# Altium footprint library CX3_Camera.PcbLib: 27 footprints (part 2 of 2)
Each footprint in its own frame and in the unit in brackets; x right, y up, seen from the top. Pads: shape width x height; smd on the part's side, far side on the other; paste and mask are expansions set on the pad; w line width, h text height; cw(c..) or ccw(c..) is an arc to the next point about the centre after c.
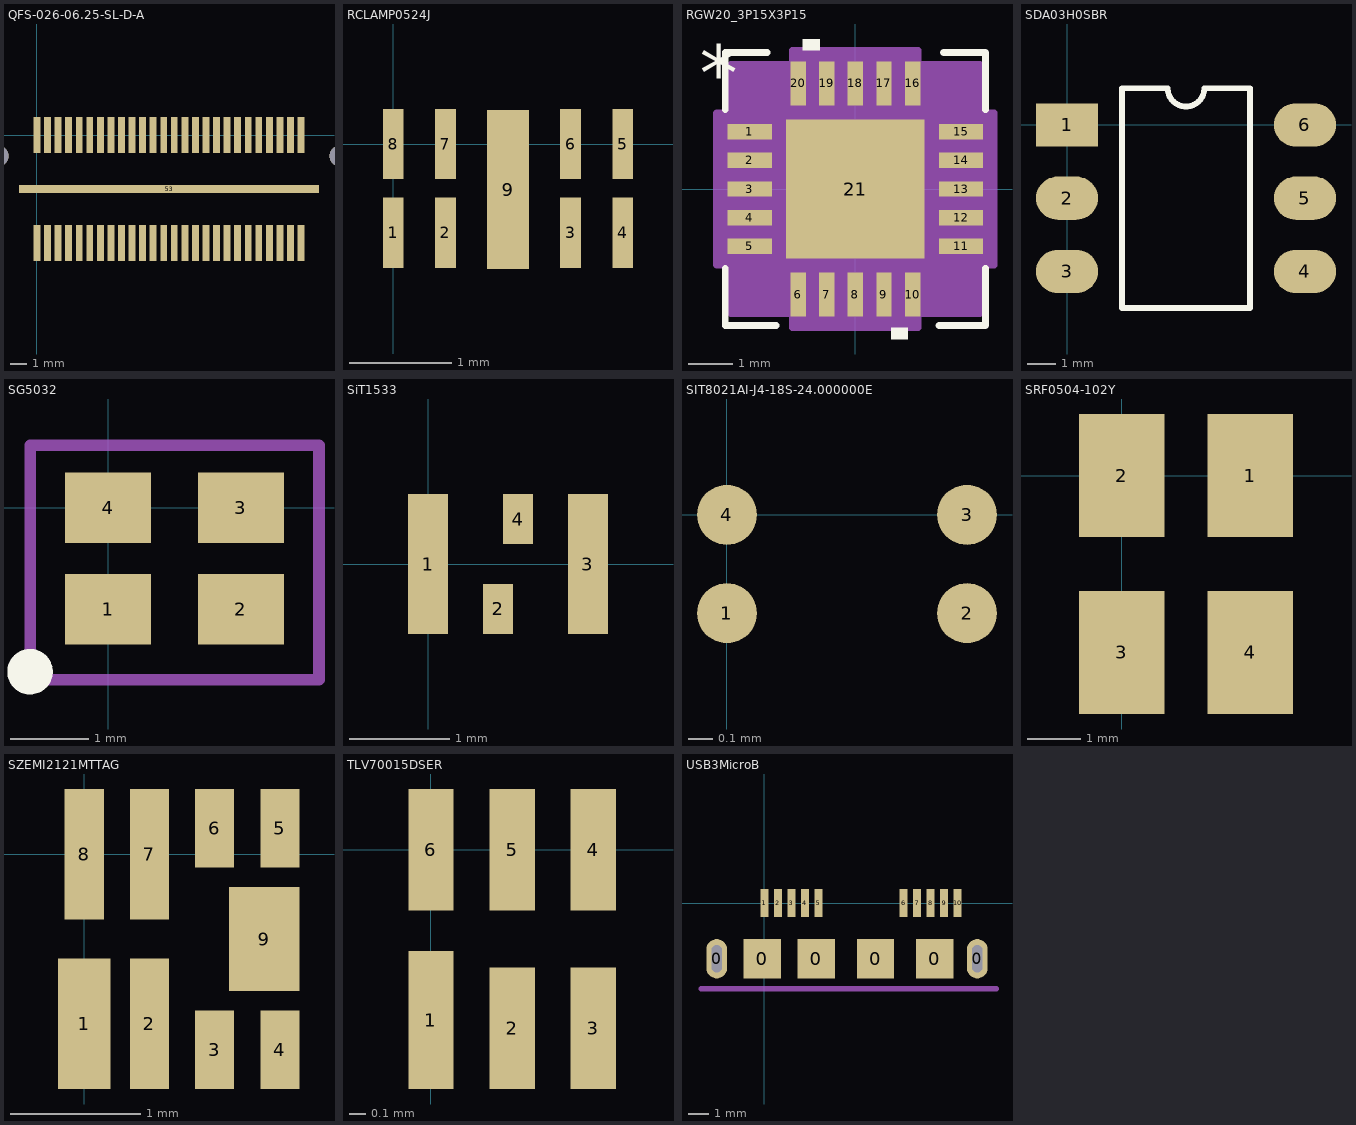
[diagram p1: the footprints below, top view; thin cyan lines are the x and y axes]

## QFS-026-06.25-SL-D-A [mm]
pads (53):
  rect 0.41x2.16 smd: 1(0,0) 2(0,-6.48) 3(0.635,0) 4(0.635,-6.48) 5(1.27,0) 6(1.27,-6.48) 7(1.905,0) 8(1.905,-6.48) 9(2.54,0) 10(2.54,-6.48) 11(3.175,0) 12(3.175,-6.48) 13(3.81,0) 14(3.81,-6.48) 15(4.445,0) 16(4.445,-6.48) 17(5.08,0) 18(5.08,-6.48) 19(5.715,0) 20(5.715,-6.48) 21(6.35,0) 22(6.35,-6.48) 23(6.985,0) 24(6.985,-6.48) 25(7.62,0) 26(7.62,-6.48) 27(8.255,0) 28(8.255,-6.48) 29(8.89,0) 30(8.89,-6.48) 31(9.525,0) 32(9.525,-6.48) 33(10.16,0) 34(10.16,-6.48) 35(10.795,0) 36(10.795,-6.48) 37(11.43,0) 38(11.43,-6.48) 39(12.065,0) 40(12.065,-6.48) 41(12.7,0) 42(12.7,-6.48) 43(13.335,0) 44(13.335,-6.48) 45(13.97,0) 46(13.97,-6.48) 47(14.605,0) 48(14.605,-6.48) 49(15.24,0) 50(15.24,-6.48) 51(15.875,0) 52(15.875,-6.48)
  rect 18.03x0.51 smd: 53(7.938,-3.24)
via -2.349,-1.257 diameter 1.25 hole 1.25
via 18.224,-1.257 diameter 1.25 hole 1.25
3D body "QFS-026-06.25-SL-D-A.STEP": height 9.04, standoff -1.27, extent -3.238,-7.304 19.114,0.824

## RCLAMP0524J [mil] "TVS DIODE 5VWM 15VC 8SLP"
pads (9):
  rect 8x27 smd: 1(0,-34) 2(20,-34) 3(68,-34) 4(88,-34) 5(88,0) 6(68,0) 7(20,0) 8(0,0)
  rect 16x61 smd: 9(44,-17.5)

## RGW20_3P15X3P15 [mm]
pads (21):
  rect 1x0.35 smd paste-0.175: 1(-2.4,1.3) 2(-2.4,0.65) 3(-2.4,0) 4(-2.4,-0.65) 5(-2.4,-1.3) 11(2.4,-1.3) 12(2.4,-0.65) 13(2.4,0) 14(2.4,0.65) 15(2.4,1.3)
  rect 0.35x1 smd paste-0.175: 6(-1.3,-2.4) 7(-0.65,-2.4) 8(0,-2.4) 9(0.65,-2.4) 10(1.3,-2.4) 16(1.3,2.4) 17(0.65,2.4) 18(0,2.4) 19(-0.65,2.4) 20(-1.3,2.4)
  rect 3.15x3.15 smd paste-1.562 mask-1.562: 21(0,0)
Top Overlay:
  region: 1.191,-3.154 0.81,-3.154 0.81,-3.408 1.191,-3.408
  region: -0.81,3.154 -1.191,3.154 -1.191,3.408 -0.81,3.408
  lines w0.152: -2.956,-1.803 -2.956,-3.1 -1.8,-3.1 ; -2.956,1.803 -2.956,3.1 -2,3.1 ; 1.9,-3.1 2.956,-3.1 2.956,-1.803 ; 2,3.1 2.956,3.1 2.956,1.803
  text "*" at -3.535,2.006 h1.27
Top Paste:
  drawing of 37 lines, arcs and shapes, not listed
Top Solder:
  region: -1.83,1.545 -2.97,1.545 -2.97,1.055 -1.83,1.055
  region: -1.83,0.895 -2.97,0.895 -2.97,0.405 -1.83,0.405
  region: -1.83,0.245 -2.97,0.245 -2.97,-0.245 -1.83,-0.245
  region: -1.83,-0.405 -2.97,-0.405 -2.97,-0.895 -1.83,-0.895
  region: -1.83,-1.055 -2.97,-1.055 -2.97,-1.545 -1.83,-1.545
  region: 0.245,-1.83 -0.245,-1.83 -0.245,-2.97 0.245,-2.97
  region: 2.97,-1.055 1.83,-1.055 1.83,-1.545 2.97,-1.545
  region: 2.97,-0.405 1.83,-0.405 1.83,-0.895 2.97,-0.895
  region: 2.97,0.245 1.83,0.245 1.83,-0.245 2.97,-0.245
  region: 2.97,0.895 1.83,0.895 1.83,0.405 2.97,0.405
  region: 2.97,1.545 1.83,1.545 1.83,1.055 2.97,1.055
  region: 0.245,2.97 -0.245,2.97 -0.245,1.83 0.245,1.83
  region: -1.639,1.381 -1.639,1.639 1.639,1.639 1.639,1.381
  region: -1.639,0.594 -1.639,0.981 1.639,0.981 1.639,0.594
  region: -1.639,-0.194 -1.639,0.194 1.639,0.194 1.639,-0.194
  region: -1.639,-0.981 -1.639,-0.594 1.639,-0.594 1.639,-0.981
  region: -1.639,-1.639 -1.639,-1.381 1.639,-1.381 1.639,-1.639
  region: -1.639,-1.639 -1.639,1.639 -1.381,1.639 -1.381,-1.639
  region: -0.594,-1.639 -0.594,1.639 -0.981,1.639 -0.981,-1.639
  region: 0.194,-1.639 0.194,1.639 -0.194,1.639 -0.194,-1.639
  region: 0.981,-1.639 0.981,1.639 0.594,1.639 0.594,-1.639
  region: 1.381,-1.639 1.381,1.639 1.639,1.639 1.639,-1.639
Mechanical 15:
  region: -1.429,-2.829 -2.829,-2.829 -2.829,-1.729 -3.154,-1.729 -3.154,1.729 -2.829,1.729 -2.829,2.829 -1.429,2.829 -1.429,3.154 1.429,3.154 1.429,2.829 2.829,2.829 2.829,1.729 3.154,1.729 3.154,-1.729 2.829,-1.729 2.829,-2.829 1.429,-2.829 1.429,-3.154 -1.429,-3.154
  lines w0.152: -3.154,-1.729 -2.829,-1.729 -2.829,-2.829 -1.429,-2.829 -1.429,-3.154 1.429,-3.154 1.429,-2.829 2.829,-2.829 2.829,-1.729 3.154,-1.729 3.154,1.729 2.829,1.729 2.829,2.829 1.429,2.829 1.429,3.154 -1.429,3.154 -1.429,2.829 -2.829,2.829 -2.829,1.729 -3.154,1.729 -3.154,-1.729
Mechanical 16:
  circle w0.127: c-1.181,-1.181 r0.191
  circle w0.127: c-1.181,-0.394 r0.191
  circle w0.127: c-1.181,0.394 r0.191
  circle w0.127: c-1.181,1.181 r0.191
  circle w0.127: c-0.394,-1.181 r0.191
  circle w0.127: c-0.394,-0.394 r0.191
  circle w0.127: c-0.394,0.394 r0.191
  circle w0.127: c-0.394,1.181 r0.191
  circle w0.127: c0.394,-1.181 r0.191
  circle w0.127: c0.394,-0.394 r0.191
  circle w0.127: c0.394,0.394 r0.191
  circle w0.127: c0.394,1.181 r0.191
  circle w0.127: c1.181,-1.181 r0.191
  circle w0.127: c1.181,-0.394 r0.191
  circle w0.127: c1.181,0.394 r0.191
  circle w0.127: c1.181,1.181 r0.191
3D body "RGW20_3P15X3P15.stp": height 1, standoff 0, extent -2.626,-2.626 2.626,2.626

## SDA03H0SBR [mm]
pads (6):
  rect 2.15x1.5 smd: 1(0,0)
  oval 2.15x1.5 smd: 2(0,-2.54) 3(0,-5.08) 4(8.25,-5.08) 5(8.25,-2.54) 6(8.25,0)
Top Overlay:
  lines w0.2: 1.91,-6.35 6.34,-6.35 6.34,1.27 4.76,1.27 cw(c4.125,1.27) 3.49,1.27 1.91,1.27 1.91,-6.35
3D body "sda03h0s.stp": height 4.5, standoff 0, extent -0.5,-7.301 8.8,2.301

## SG5032 [mm]
pads (4):
  rect 1.1x0.9 smd: 1(0,-1.3) 2(1.7,-1.3) 3(1.7,0) 4(0,0)
Top Overlay:
  circle w0.3: c-1,-2.1 r0.141
Mechanical 1:
  lines w0.147: -1,-2.2 2.7,-2.2 2.7,0.8 -1,0.8 -1,-2.2

## SiT1533 [mm] "32.768 kHz Quartz XTAL Replacement"
pads (4):
  rect 0.4x1.4 smd: 1(0,0) 3(1.6,0)
  rect 0.3x0.5 smd: 2(0.7,-0.45) 4(0.9,0.45)

## SIT8021AI-J4-18S-24.000000E [mm]
pads (4):
  round 0.25 smd: 1(0,-0.41) 2(1,-0.41) 3(1,0) 4(0,0)

## SRF0504-102Y [mm]
pads (4):
  rect 1.6x2.3 smd: 1(2.4,0) 2(0,0) 3(0,-3.3) 4(2.4,-3.3)
3D body "srf0504.stp": height 4.8, standoff 0, extent -1.3,-4.2 3.7,1

## SZEMI2121MTTAG [mm]
pads (9):
  rect 0.4x1 smd: 1(0,-1.3)
  rect 0.3x1 smd: 2(0.5,-1.3) 7(0.5,0) 8(0,0)
  rect 0.3x0.6 smd: 3(1,-1.5) 4(1.5,-1.5) 5(1.5,0.2) 6(1,0.2)
  rect 0.54x0.8 smd: 9(1.38,-0.65)

## TLV70015DSER [mm]
pads (6):
  rect 0.28x0.85 smd: 1(0,-1.05)
  rect 0.28x0.75 smd: 2(0.5,-1.1) 3(1,-1.1) 4(1,0) 5(0.5,0) 6(0,0)

## USB3MicroB [mm] "USB 3.0 Micro B Receptacle"
pads (16):
  oval 1x1.9 hole 0.5 slot 1.3 at 90 deg: 0(-2.3,-2.675) 0(10.25,-2.675)
  rect 1.8x1.9 smd: 0(-0.1,-2.675) 0(2.5,-2.675) 0(5.35,-2.675) 0(8.2,-2.675)
  rect 0.4x1.35 smd: 1(0,0) 2(0.65,0) 3(1.3,0) 4(1.95,0) 5(2.6,0) 6(6.7,0) 7(7.35,0) 8(8,0) 9(8.65,0) 10(9.3,0)
Mechanical 1:
  lines w0.254: -3.048,-4.125 11.176,-4.125
3D body "USB3110-30-A_revF2.step": height 2.73, standoff -1, extent -2.7,-5.518 10.715,0.4